# EAGLE library part MFRC63002HN,118 (library MFRC630)
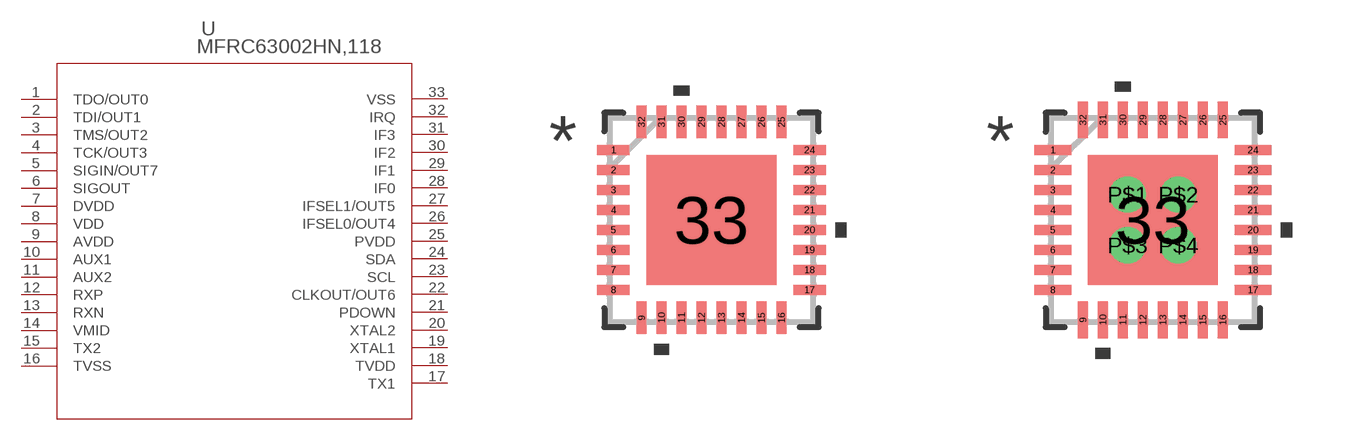
[diagram p0: symbol with the pads of HVQFN32_SOT617-1_NXP; footprints HVQFN32_SOT617-1_NXP, HVQFN32_SOT617-1_NXP-M]

Designator prefix U

## MFRC63002HN,118HVQFN32_SOT617-1_NXP (COPYRIGHT: Copyright (C) 2024 Ultra Librarian. All rights reserved.; MANUFACTURER_PART_NUMBER: MFRC63002HN,118; MFR_NAME: NXP)  [HVQFN32_SOT617-1_NXP]
1  TDO/OUT0  out
2  TDI/OUT1  in
3  TMS/OUT2  in
4  TCK/OUT3  in
5  SIGIN/OUT7
6  SIGOUT  out
7  DVDD  pwr
8  VDD  pwr
9  AVDD  pwr
10  AUX1  out
11  AUX2  out
12  RXP  in
13  RXN  in
14  VMID  pwr
15  TX2  out
16  TVSS  pas
17  TX1  out
18  TVDD  pwr
19  XTAL1  in
20  XTAL2  out
21  PDOWN  in
22  CLKOUT/OUT6  out
23  SCL  out
24  SDA
25  PVDD  pwr
26  IFSEL0/OUT4  in
27  IFSEL1/OUT5  in
28  IF0
29  IF1
30  IF2
31  IF3
32  IRQ  out
33  VSS  pas

## MFRC63002HN,118HVQFN32_SOT617-1_NXP-M (COPYRIGHT: Copyright (C) 2024 Ultra Librarian. All rights reserved.; MANUFACTURER_PART_NUMBER: MFRC63002HN,118; MFR_NAME: NXP)  [HVQFN32_SOT617-1_NXP-M]
1  TDO/OUT0  out
2  TDI/OUT1  in
3  TMS/OUT2  in
4  TCK/OUT3  in
5  SIGIN/OUT7
6  SIGOUT  out
7  DVDD  pwr
8  VDD  pwr
9  AVDD  pwr
10  AUX1  out
11  AUX2  out
12  RXP  in
13  RXN  in
14  VMID  pwr
15  TX2  out
16  TVSS  pas
17  TX1  out
18  TVDD  pwr
19  XTAL1  in
20  XTAL2  out
21  PDOWN  in
22  CLKOUT/OUT6  out
23  SCL  out
24  SDA
25  PVDD  pwr
26  IFSEL0/OUT4  in
27  IFSEL1/OUT5  in
28  IF0
29  IF1
30  IF2
31  IF3
32  IRQ  out
33  VSS  pas
P$1  VSS  pas
P$2  VSS  pas
P$3  VSS  pas
P$4  VSS  pas

## MFRC63002HN,118HVQFN32_SOT617-1_NXP-L (COPYRIGHT: Copyright (C) 2024 Ultra Librarian. All rights reserved.; MANUFACTURER_PART_NUMBER: MFRC63002HN,118; MFR_NAME: NXP)  [HVQFN32_SOT617-1_NXP-L]
Pads as for HVQFN32_SOT617-1_NXP

## Footprint HVQFN32_SOT617-1_NXP (pad centres in mm)
smd 0.813 x 0.254: 1 -2.451,1.75; 2 -2.451,1.25; 3 -2.451,0.75; 4 -2.451,0.25; 5 -2.451,-0.25; 6 -2.451,-0.75; 7 -2.451,-1.25; 8 -2.451,-1.75; 17 2.451,-1.75; 18 2.451,-1.25; 19 2.451,-0.75; 20 2.451,-0.25; 21 2.451,0.25; 22 2.451,0.75; 23 2.451,1.25; 24 2.451,1.75
smd 0.254 x 0.813: 9 -1.75,-2.451; 10 -1.25,-2.451; 11 -0.75,-2.451; 12 -0.25,-2.451; 13 0.25,-2.451; 14 0.75,-2.451; 15 1.25,-2.451; 16 1.75,-2.451; 25 1.75,2.451; 26 1.25,2.451; 27 0.75,2.451; 28 0.25,2.451; 29 -0.25,2.451; 30 -0.75,2.451; 31 -1.25,2.451; 32 -1.75,2.451
smd 3.251 x 3.251: 33 0,0

## Footprint HVQFN32_SOT617-1_NXP-M (pad centres in mm)
smd 0.914 x 0.254: 1 -2.502,1.75; 2 -2.502,1.25; 3 -2.502,0.75; 4 -2.502,0.25; 5 -2.502,-0.25; 6 -2.502,-0.75; 7 -2.502,-1.25; 8 -2.502,-1.75; 17 2.502,-1.75; 18 2.502,-1.25; 19 2.502,-0.75; 20 2.502,-0.25; 21 2.502,0.25; 22 2.502,0.75; 23 2.502,1.25; 24 2.502,1.75
smd 0.254 x 0.914: 9 -1.75,-2.502; 10 -1.25,-2.502; 11 -0.75,-2.502; 12 -0.25,-2.502; 13 0.25,-2.502; 14 0.75,-2.502; 15 1.25,-2.502; 16 1.75,-2.502; 25 1.75,2.502; 26 1.25,2.502; 27 0.75,2.502; 28 0.25,2.502; 29 -0.25,2.502; 30 -0.75,2.502; 31 -1.25,2.502; 32 -1.75,2.502
smd 3.251 x 3.251: 33 0,0
drill 0.4: P$1 -0.635,0.635; P$2 0.635,0.635; P$3 -0.635,-0.635; P$4 0.635,-0.635

## Footprint HVQFN32_SOT617-1_NXP-L (pad centres in mm)
smd 0.711 x 0.254: 1 -2.4,1.75; 2 -2.4,1.25; 3 -2.4,0.75; 4 -2.4,0.25; 5 -2.4,-0.25; 6 -2.4,-0.75; 7 -2.4,-1.25; 8 -2.4,-1.75; 17 2.4,-1.75; 18 2.4,-1.25; 19 2.4,-0.75; 20 2.4,-0.25; 21 2.4,0.25; 22 2.4,0.75; 23 2.4,1.25; 24 2.4,1.75
smd 0.254 x 0.711: 9 -1.75,-2.4; 10 -1.25,-2.4; 11 -0.75,-2.4; 12 -0.25,-2.4; 13 0.25,-2.4; 14 0.75,-2.4; 15 1.25,-2.4; 16 1.75,-2.4; 25 1.75,2.4; 26 1.25,2.4; 27 0.75,2.4; 28 0.25,2.4; 29 -0.25,2.4; 30 -0.75,2.4; 31 -1.25,2.4; 32 -1.75,2.4
smd 3.251 x 3.251: 33 0,0